# EAGLE library part TIVA_LAUNCHPAD_FOOTPRINT (library CEDT_JANUARY_2015_v6)
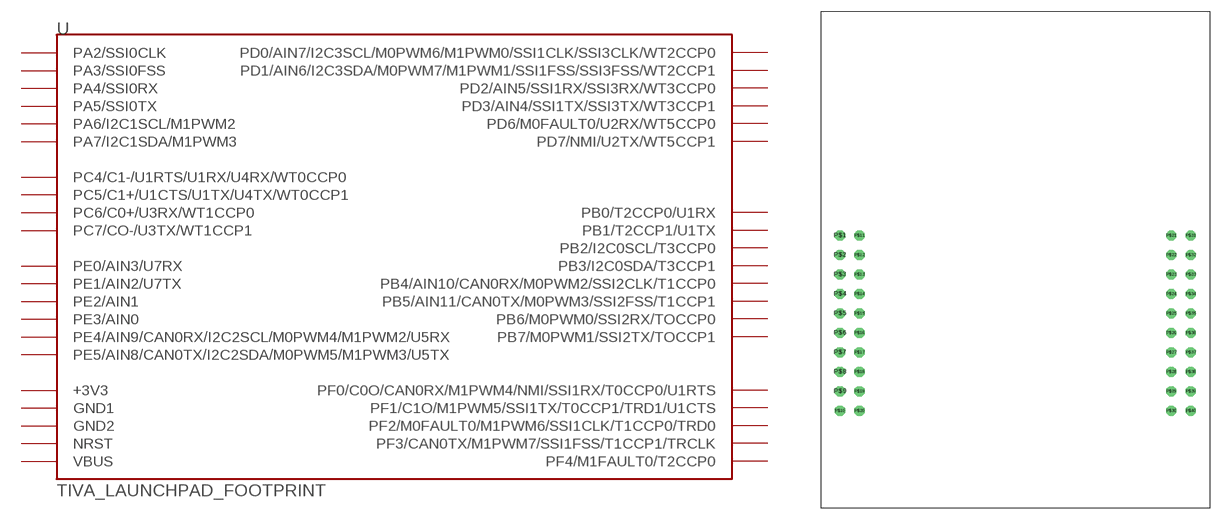
[diagram p80: symbol with the pads of TIVA_LAUNCHPAD_FOOTPRINT; footprint TIVA_LAUNCHPAD_FOOTPRINT]

Designator prefix -

## TIVA_LAUNCHPAD_FOOTPRINT  [TIVA_LAUNCHPAD_FOOTPRINT]
P$1  +3V3
P$2  PB5/AIN11/CAN0TX/M0PWM3/SSI2FSS/T1CCP1
P$3  PB0/T2CCP0/U1RX
P$4  PB1/T2CCP1/U1TX
P$5  PE4/AIN9/CAN0RX/I2C2SCL/M0PWM4/M1PWM2/U5RX
P$6  PE5/AIN8/CAN0TX/I2C2SDA/M0PWM5/M1PWM3/U5TX
P$7  PB4/AIN10/CAN0RX/M0PWM2/SSI2CLK/T1CCP0
P$8  PA5/SSI0TX
P$9  PA6/I2C1SCL/M1PWM2
P$10  PA7/I2C1SDA/M1PWM3
P$11  VBUS
P$12  GND1
P$13  PD0/AIN7/I2C3SCL/M0PWM6/M1PWM0/SSI1CLK/SSI3CLK/WT2CCP0
P$14  PD1/AIN6/I2C3SDA/M0PWM7/M1PWM1/SSI1FSS/SSI3FSS/WT2CCP1
P$15  PD2/AIN5/SSI1RX/SSI3RX/WT3CCP0
P$16  PD3/AIN4/SSI1TX/SSI3TX/WT3CCP1
P$17  PE1/AIN2/U7TX
P$18  PE2/AIN1
P$19  PE3/AIN0
P$20  PF1/C1O/M1PWM5/SSI1TX/T0CCP1/TRD1/U1CTS
P$21  PF2/M0FAULT0/M1PWM6/SSI1CLK/T1CCP0/TRD0
P$22  PF3/CAN0TX/M1PWM7/SSI1FSS/T1CCP1/TRCLK
P$23  PB3/I2C0SDA/T3CCP1
P$24  PC4/C1-/U1RTS/U1RX/U4RX/WT0CCP0
P$25  PC5/C1+/U1CTS/U1TX/U4TX/WT0CCP1
P$26  PC6/C0+/U3RX/WT1CCP0
P$27  PC7/CO-/U3TX/WT1CCP1
P$28  PD6/M0FAULT0/U2RX/WT5CCP0
P$29  PD7/NMI/U2TX/WT5CCP1
P$30  PF4/M1FAULT0/T2CCP0
P$31  GND2
P$32  PB2/I2C0SCL/T3CCP0
P$33  PE0/AIN3/U7RX
P$34  PF0/C0O/CAN0RX/M1PWM4/NMI/SSI1RX/T0CCP0/U1RTS
P$35  NRST
P$36  PB7/M0PWM1/SSI2TX/TOCCP1
P$37  PB6/M0PWM0/SSI2RX/TOCCP0
P$38  PA4/SSI0RX
P$39  PA3/SSI0FSS
P$40  PA2/SSI0CLK

## Footprint TIVA_LAUNCHPAD_FOOTPRINT (pad centres in mm)
drill 0.8 octagon: P$1 2.54,35.56; P$2 2.54,33.02; P$3 2.54,30.48; P$4 2.54,27.94; P$5 2.54,25.4; P$6 2.54,22.86; P$7 2.54,20.32; P$8 2.54,17.78; P$9 2.54,15.24; P$10 2.54,12.7; P$11 5.08,35.56; P$12 5.08,33.02; P$13 5.08,30.48; P$14 5.08,27.94; P$15 5.08,25.4; P$16 5.08,22.86; P$17 5.08,20.32; P$18 5.08,17.78; P$19 5.08,15.24; P$20 5.08,12.7; P$21 45.72,35.56; P$22 45.72,33.02; P$23 45.72,30.48; P$24 45.72,27.94; P$25 45.72,25.4; P$26 45.72,22.86; P$27 45.72,20.32; P$28 45.72,17.78; P$29 45.72,15.24; P$30 45.72,12.7; P$31 48.26,35.56; P$32 48.26,33.02; P$33 48.26,30.48; P$34 48.26,27.94; P$35 48.26,25.4; P$36 48.26,22.86; P$37 48.26,20.32; P$38 48.26,17.78; P$39 48.26,15.24; P$40 48.26,12.7